# EAGLE library part NTJS3151P (library Discrete)
ON Semiconductor NTJS3151P Trench Power MOSFET 3.3A, 12V Single Channel, ESD
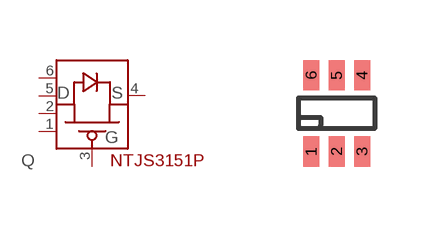
[diagram p5: symbol with the pads of SOT-363; footprint SOT-363]

Designator prefix Q

## NTJS3151P  [SOT-363]
1  D
2  D
3  G
4  S
5  D
6  D

## Footprint SOT-363 (pad centres in mm)
smd 0.4 x 0.762: 1 -0.635,-0.953; 2 0,-0.953; 3 0.635,-0.953; 4 0.635,0.953; 5 0,0.953; 6 -0.635,0.953